# Altium footprint library stereo_tayda_plug.PcbLib: 1 footprints
Each footprint in its own frame and in the unit in brackets; x right, y up, seen from the top. Pads: shape width x height; smd on the part's side, far side on the other; paste and mask are expansions set on the pad; w line width, h text height; cw(c..) or ccw(c..) is an arc to the next point about the centre after c.
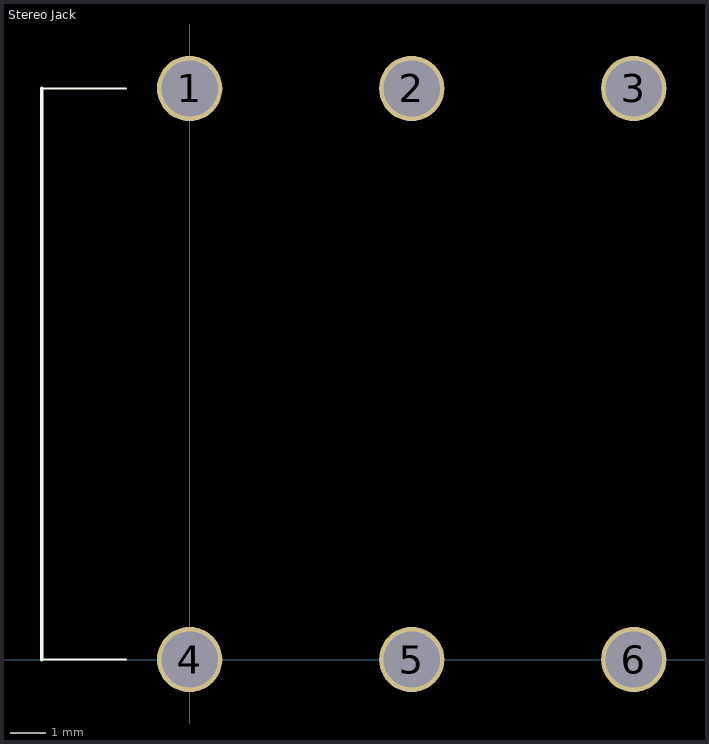
[diagram p0: the footprint, top view; thin cyan lines are the x and y axes]

## Stereo Jack [mm] "Tayda Stereo Jack"
height 15.7
pads (6):
  round 1.854 hole 1.6: 1(0,16.2) 2(6.3,16.2) 3(12.6,16.2) 4(0,0) 5(6.3,0) 6(12.6,0)
Top Overlay:
  lines w0.05: -4.2,0 -1.8,0 ; -4.2,16.2 -1.8,16.2
  lines w0.1: -4.2,0 -4.2,16.2
3D body: height 15.89, standoff -4.04, extent -12.341,-1.016 19.453,17.184